# Altium footprint library MODULE_MISC.PcbLib: 36 footprints (part 1 of 3)
Each footprint in its own frame and in the unit in brackets; x right, y up, seen from the top. Pads: shape width x height; smd on the part's side, far side on the other; paste and mask are expansions set on the pad; w line width, h text height; cw(c..) or ccw(c..) is an arc to the next point about the centre after c.
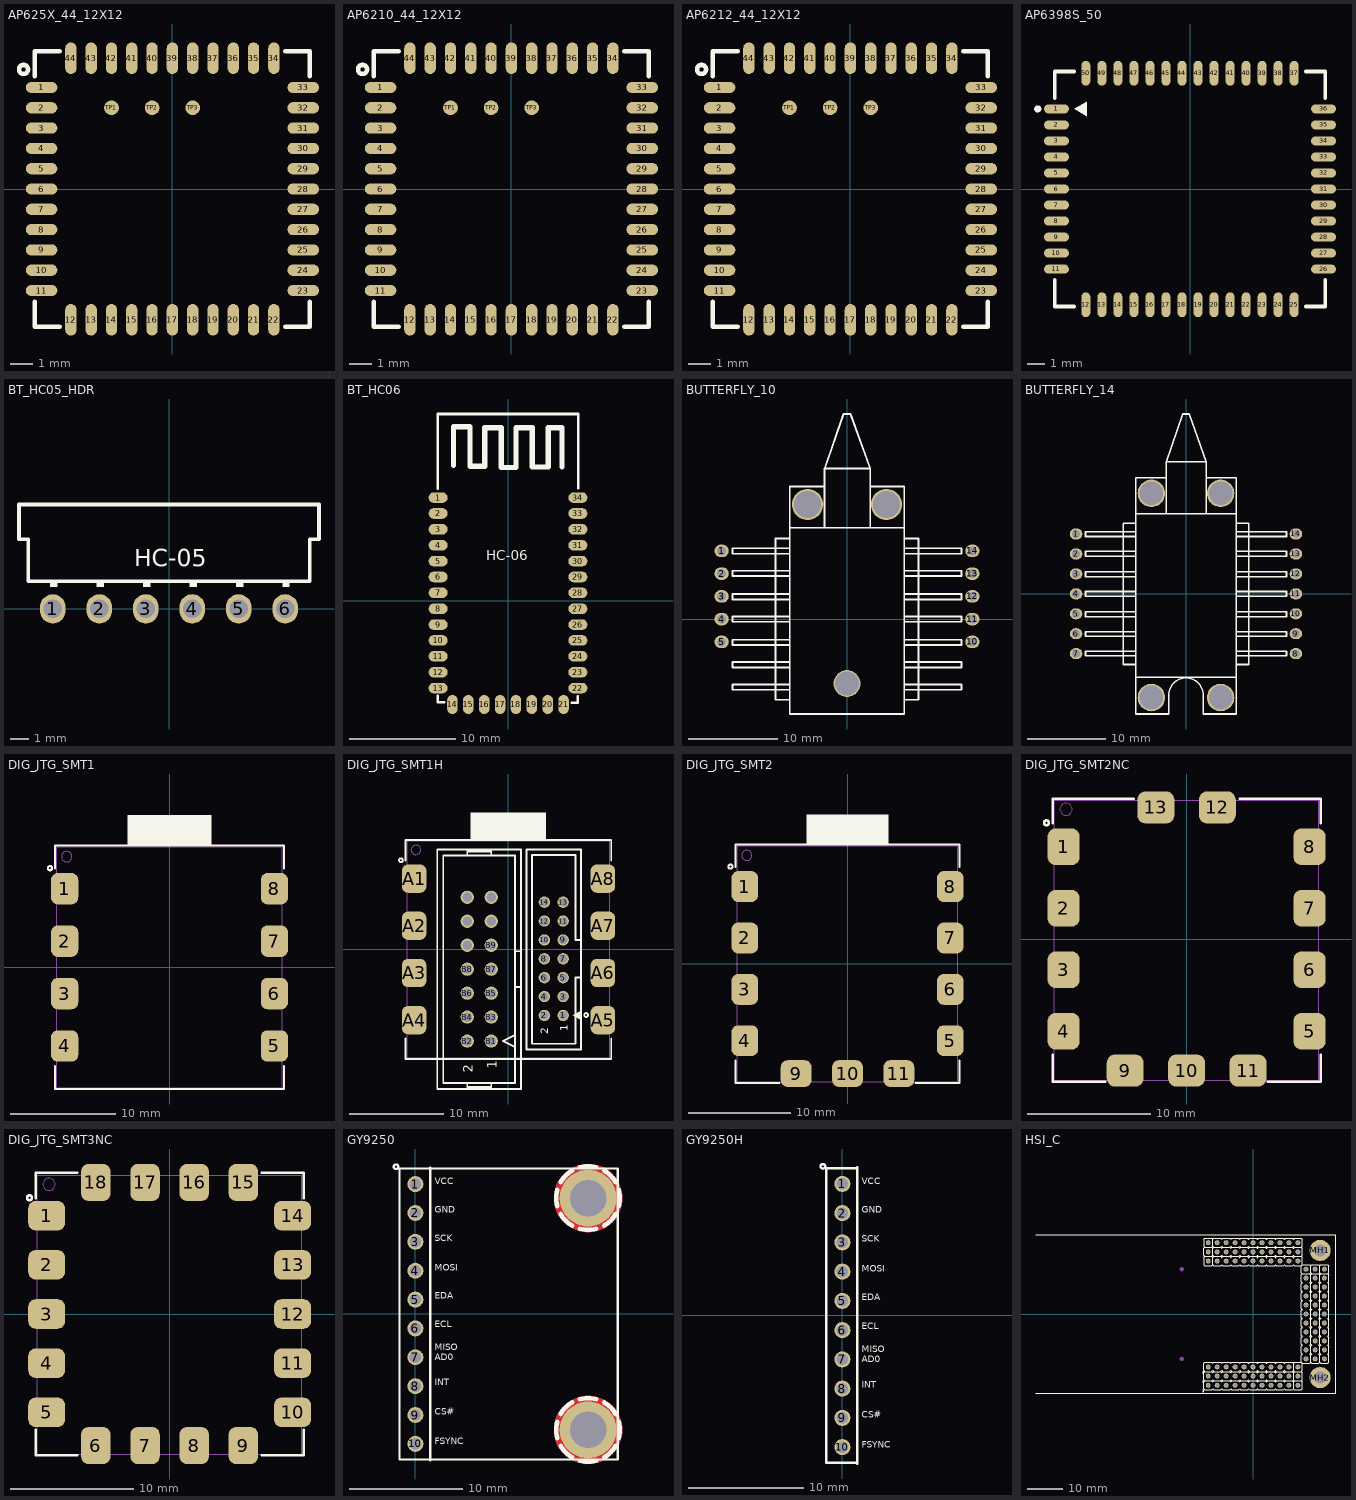
[diagram p0: the footprints below, top view; thin cyan lines are the x and y axes]

## AP625X_44_12X12 [mm] "AP6255, 0.9mm pitch, 12x12x1.5mm"
height 1.5
pads (47):
  oval 1.4x0.5 smd: 1(-5.8,4.5) 2(-5.8,3.6) 3(-5.8,2.7) 4(-5.8,1.8) 5(-5.8,0.9) 6(-5.8,0) 7(-5.8,-0.9) 8(-5.8,-1.8) 9(-5.8,-2.7) 10(-5.8,-3.6) 11(-5.8,-4.5) 23(5.8,-4.5) 24(5.8,-3.6) 25(5.8,-2.7) 26(5.8,-1.8) 27(5.8,-0.9) 28(5.8,0) 29(5.8,0.9) 30(5.8,1.8) 31(5.8,2.7) 32(5.8,3.6) 33(5.8,4.5)
  oval 0.5x1.4 smd: 12(-4.5,-5.8) 13(-3.6,-5.8) 14(-2.7,-5.8) 15(-1.8,-5.8) 16(-0.9,-5.8) 17(0,-5.8) 18(0.9,-5.8) 19(1.8,-5.8) 20(2.7,-5.8) 21(3.6,-5.8) 22(4.5,-5.8) 34(4.5,5.8) 35(3.6,5.8) 36(2.7,5.8) 37(1.8,5.8) 38(0.9,5.8) 39(0,5.8) 40(-0.9,5.8) 41(-1.8,5.8) 42(-2.7,5.8) 43(-3.6,5.8) 44(-4.5,5.8)
  round 0.65 smd: TP1(-2.7,3.6) TP2(-0.9,3.6) TP3(0.9,3.6)
Top Overlay:
  lines w0.2: -6.1,-5 -6.1,-6.1 -5,-6.1 ; -6.1,5 -6.1,6.1 -5,6.1 ; 5,-6.1 6.1,-6.1 6.1,-5 ; 5,6.1 6.1,6.1 6.1,5 ; -6.6,5.1 cw(c-6.6,5.3) -6.6,5.5 cw(c-6.6,5.3) -6.6,5.1
3D body "User Library-AP6255.step": height 1.52, standoff 0, extent -6,-6 6,6

## AP6210_44_12X12 [mm] "AP6210, 0.9mm pitch, 12x12x1.5mm"
height 1.5
pads (47):
  oval 1.4x0.5 smd: 1(-5.8,4.5) 2(-5.8,3.6) 3(-5.8,2.7) 4(-5.8,1.8) 5(-5.8,0.9) 6(-5.8,0) 7(-5.8,-0.9) 8(-5.8,-1.8) 9(-5.8,-2.7) 10(-5.8,-3.6) 11(-5.8,-4.5) 23(5.8,-4.5) 24(5.8,-3.6) 25(5.8,-2.7) 26(5.8,-1.8) 27(5.8,-0.9) 28(5.8,0) 29(5.8,0.9) 30(5.8,1.8) 31(5.8,2.7) 32(5.8,3.6) 33(5.8,4.5)
  oval 0.5x1.4 smd: 12(-4.5,-5.8) 13(-3.6,-5.8) 14(-2.7,-5.8) 15(-1.8,-5.8) 16(-0.9,-5.8) 17(0,-5.8) 18(0.9,-5.8) 19(1.8,-5.8) 20(2.7,-5.8) 21(3.6,-5.8) 22(4.5,-5.8) 34(4.5,5.8) 35(3.6,5.8) 36(2.7,5.8) 37(1.8,5.8) 38(0.9,5.8) 39(0,5.8) 40(-0.9,5.8) 41(-1.8,5.8) 42(-2.7,5.8) 43(-3.6,5.8) 44(-4.5,5.8)
  round 0.65 smd: TP1(-2.7,3.6) TP2(-0.9,3.6) TP3(0.9,3.6)
Top Overlay:
  lines w0.2: -6.1,-5 -6.1,-6.1 -5,-6.1 ; -6.1,5 -6.1,6.1 -5,6.1 ; 5,-6.1 6.1,-6.1 6.1,-5 ; 5,6.1 6.1,6.1 6.1,5 ; -6.6,5.1 ccw(c-6.6,5.3) -6.6,5.5 ccw(c-6.6,5.3) -6.6,5.1
3D body "User Library-AP6210.step": height 1.52, standoff 0, extent -6,-6 6,6

## AP6212_44_12X12 [mm] "AP6212, 0.9mm pitch, 12x12x1.5mm"
height 1.5
pads (47):
  oval 1.4x0.5 smd: 1(-5.8,4.5) 2(-5.8,3.6) 3(-5.8,2.7) 4(-5.8,1.8) 5(-5.8,0.9) 6(-5.8,0) 7(-5.8,-0.9) 8(-5.8,-1.8) 9(-5.8,-2.7) 10(-5.8,-3.6) 11(-5.8,-4.5) 23(5.8,-4.5) 24(5.8,-3.6) 25(5.8,-2.7) 26(5.8,-1.8) 27(5.8,-0.9) 28(5.8,0) 29(5.8,0.9) 30(5.8,1.8) 31(5.8,2.7) 32(5.8,3.6) 33(5.8,4.5)
  oval 0.5x1.4 smd: 12(-4.5,-5.8) 13(-3.6,-5.8) 14(-2.7,-5.8) 15(-1.8,-5.8) 16(-0.9,-5.8) 17(0,-5.8) 18(0.9,-5.8) 19(1.8,-5.8) 20(2.7,-5.8) 21(3.6,-5.8) 22(4.5,-5.8) 34(4.5,5.8) 35(3.6,5.8) 36(2.7,5.8) 37(1.8,5.8) 38(0.9,5.8) 39(0,5.8) 40(-0.9,5.8) 41(-1.8,5.8) 42(-2.7,5.8) 43(-3.6,5.8) 44(-4.5,5.8)
  round 0.65 smd: TP1(-2.7,3.6) TP2(-0.9,3.6) TP3(0.9,3.6)
Top Overlay:
  lines w0.2: -6.1,-5 -6.1,-6.1 -5,-6.1 ; -6.1,5 -6.1,6.1 -5,6.1 ; 5,-6.1 6.1,-6.1 6.1,-5 ; 5,6.1 6.1,6.1 6.1,5 ; -6.6,5.1 cw(c-6.6,5.3) -6.6,5.5 cw(c-6.6,5.3) -6.6,5.1
3D body "User Library-AP6212.step": height 1.52, standoff 0, extent -6,-6 6,6

## AP6398S_50 [mm] "AP6398S, 0.9mm pitch, 15X13X1.85mm"
height 1.85
pads (50):
  oval 1.4x0.5 smd: 1(-7.5,4.5) 2(-7.5,3.6) 3(-7.5,2.7) 4(-7.5,1.8) 5(-7.5,0.9) 6(-7.5,0) 7(-7.5,-0.9) 8(-7.5,-1.8) 9(-7.5,-2.7) 10(-7.5,-3.6) 11(-7.5,-4.5) 26(7.5,-4.5) 27(7.5,-3.6) 28(7.5,-2.7) 29(7.5,-1.8) 30(7.5,-0.9) 31(7.5,0) 32(7.5,0.9) 33(7.5,1.8) 34(7.5,2.7) 35(7.5,3.6) 36(7.5,4.5)
  oval 0.5x1.4 smd: 12(-5.85,-6.5) 13(-4.95,-6.5) 14(-4.05,-6.5) 15(-3.15,-6.5) 16(-2.25,-6.5) 17(-1.35,-6.5) 18(-0.45,-6.5) 19(0.45,-6.5) 20(1.35,-6.5) 21(2.25,-6.5) 22(3.15,-6.5) 23(4.05,-6.5) 24(4.95,-6.5) 25(5.85,-6.5) 37(5.85,6.5) 38(4.95,6.5) 39(4.05,6.5) 40(3.15,6.5) 41(2.25,6.5) 42(1.35,6.5) 43(0.45,6.5) 44(-0.45,6.5) 45(-1.35,6.5) 46(-2.25,6.5) 47(-3.15,6.5) 48(-4.05,6.5) 49(-4.95,6.5) 50(-5.85,6.5)
Top Overlay:
  circle w0.2: c-8.55,4.5 r0.1
  region: -6.5,4.5 -5.8,4.9 -5.8,4.1
  lines w0.2: -7.6,-5.1 -7.6,-6.6 -6.5,-6.6 ; -7.6,5.1 -7.6,6.6 -6.5,6.6 ; 6.5,-6.6 7.6,-6.6 7.6,-5.1 ; 6.5,6.6 7.6,6.6 7.6,5.1
3D body: height 1.85, standoff 0, extent -7.5,-6.5 7.5,6.5

## BT_HC05_HDR [mm] "Bluetooth HC-05"
pads (6):
  oval 1.4x1.6 / inner round 1.4 / far side oval 1.4x2.2 hole 1: 1(-6.35,0) 2(-3.81,0) 3(-1.27,0) 4(1.27,0) 5(3.81,0) 6(6.35,0)
Top Overlay:
  rectangle: 6.2,1.2 6.6,1.5
  rectangle: 3.66,1.2 4.06,1.5
  rectangle: 1.12,1.2 1.52,1.5
  rectangle: -1.42,1.2 -1.02,1.5
  rectangle: -3.96,1.2 -3.56,1.5
  rectangle: -6.5,1.2 -6.1,1.5
  lines w0.2: -8.2,3.8 -8.2,5.7 8.2,5.7 8.2,3.8 7.7,3.8 7.7,1.5 -7.7,1.5 -7.7,3.8 -8.2,3.8
  text "HC-05" at -1.9,2 h1.6
3D body "User Library-hc05.step": height 38, standoff -4.6, extent -8.05,-0.4 8.05,5.5

## BT_HC06 [mm] "Bluetooth HC-06"
pads (34):
  oval 1.8x1 smd: 1(-6.6,9.75) 2(-6.6,8.25) 3(-6.6,6.75) 4(-6.6,5.25) 5(-6.6,3.75) 6(-6.6,2.25) 7(-6.6,0.75) 8(-6.6,-0.75) 9(-6.6,-2.25) 10(-6.6,-3.75) 11(-6.6,-5.25) 12(-6.6,-6.75) 13(-6.6,-8.25) 22(6.6,-8.25) 23(6.6,-6.75) 24(6.6,-5.25) 25(6.6,-3.75) 26(6.6,-2.25) 27(6.6,-0.75) 28(6.6,0.75) 29(6.6,2.25) 30(6.6,3.75) 31(6.6,5.25) 32(6.6,6.75) 33(6.6,8.25) 34(6.6,9.75)
  oval 1x1.8 smd: 14(-5.25,-9.8) 15(-3.75,-9.8) 16(-2.25,-9.8) 17(-0.75,-9.8) 18(0.75,-9.8) 19(2.25,-9.8) 20(3.75,-9.8) 21(5.25,-9.8)
Top Overlay:
  lines w0.25: -6.65,-9 -6.65,-9.6 -6.05,-9.6 ; -6.65,10.6 -6.65,17.65 6.65,17.65 6.65,10.65 ; 6.05,-9.65 6.6,-9.65 6.6,-9.05
  lines w0.5: -5.15,12.8 -5.15,16.45 -3.6,16.45 -3.6,12.7 -2.2,12.7 -2.2,16.35 -0.65,16.35 -0.65,12.6 0.75,12.6 0.75,16.35 2.3,16.35 2.3,12.65 3.8,12.65 3.8,16.35 5.1,16.35 5.1,12.65
  text "HC-06" at -2.05,3.5 h1.6
3D body "BLUETOOTH-HC-06 Package.STEP": height 4.3, standoff 0, extent -6.5,-9.5 6.5,17.5

## BUTTERFLY_10 [mm] "Butterfly Laser Module 10pin"
pads (13):
  oval 1.6x1.4 / inner round 1.4 / far side oval 2.2x1.4 hole 1: 1(-14,7.62) 2(-14,5.08) 3(-14,2.54) 4(-14,0) 5(-14,-2.54) 10(14,-2.54) 11(14,0) 12(14,2.54) 13(14,5.08) 14(14,7.62)
  round 3.5 / inner round 3.5 / far side round 5 hole 3: ""(-4.4,12.8) ""(4.4,12.8)
  round 3 / inner round 3 / far side round 5 hole 2.7: ""(0,-7.2)
Top Overlay:
  lines w0.2: -6.4,-9 -8,-9 -8,9 -6.4,9 ; -6.4,-7.9 -12.8,-7.9 -12.8,-7.3 -6.4,-7.3 ; -6.4,-5.4 -12.8,-5.4 -12.8,-4.8 -6.4,-4.8 ; -6.4,-2.9 -12.8,-2.9 -12.8,-2.3 -6.4,-2.3 ; -6.4,-0.3 -12.8,-0.3 -12.8,0.3 -6.4,0.3 ; -6.4,2.2 -12.8,2.2 -12.8,2.8 -6.4,2.8 ; -6.4,4.8 -12.8,4.8 -12.8,5.4 -6.4,5.4 ; -6.4,7.3 -12.8,7.3 -12.8,7.9 -6.4,7.9 ; -6.4,10.2 6.4,10.2 ; -2.5,10.2 -2.5,16.8 ; -2.5,14.8 -6.4,14.8 -6.4,-10.6 6.4,-10.6 6.4,14.8 2.6,14.8 ; 2.6,10.2 2.6,16.8 ; 6.4,-9 8,-9 8,9 6.4,9 ; 6.4,-7.9 12.8,-7.9 12.8,-7.3 6.4,-7.3 ; 6.4,-5.4 12.8,-5.4 12.8,-4.8 6.4,-4.8 ; 6.4,-2.9 12.8,-2.9 12.8,-2.3 6.4,-2.3 ; 6.4,-0.3 12.8,-0.3 12.8,0.3 6.4,0.3 ; 6.4,2.2 12.8,2.2 12.8,2.8 6.4,2.8 ; 6.4,4.8 12.8,4.8 12.8,5.4 6.4,5.4 ; 6.4,7.3 12.8,7.3 12.8,7.9 6.4,7.9 ; -2.5,16.8 2.6,16.8 ; -2.5,16.8 -0.4,22.9 0.4,22.9 2.6,16.8
3D body "User Library-Butterfly-14-Lead.step": height 9.51, standoff 0, extent -26.65,-15.2 26.65,40.7

## BUTTERFLY_14 [mm] "Butterfly Laser Module 14pin"
pads (18):
  oval 1.6x1.4 / inner round 1.4 / far side oval 2.2x1.4 hole 1: 1(-14,7.62) 2(-14,5.08) 3(-14,2.54) 4(-14,0) 5(-14,-2.54) 6(-14,-5.08) 7(-14,-7.62) 8(14,-7.62) 9(14,-5.08) 10(14,-2.54) 11(14,0) 12(14,2.54) 13(14,5.08) 14(14,7.62)
  round 3.5 / inner round 3.5 / far side round 5 hole 3: ""(-4.4,-13.2) ""(-4.4,12.8) ""(4.4,-13.2) ""(4.4,12.8)
Top Overlay:
  lines w0.2: -6.4,-10.6 6.4,-10.6 ; -6.4,-9 -8,-9 -8,9 -6.4,9 ; -6.4,-7.9 -12.8,-7.9 -12.8,-7.3 -6.4,-7.3 ; -6.4,-5.4 -12.8,-5.4 -12.8,-4.8 -6.4,-4.8 ; -6.4,-2.9 -12.8,-2.9 -12.8,-2.3 -6.4,-2.3 ; -6.4,-0.3 -12.8,-0.3 -12.8,0.3 -6.4,0.3 ; -6.4,2.2 -12.8,2.2 -12.8,2.8 -6.4,2.8 ; -6.4,4.8 -12.8,4.8 -12.8,5.4 -6.4,5.4 ; -6.4,7.3 -12.8,7.3 -12.8,7.9 -6.4,7.9 ; -6.4,10.2 6.4,10.2 ; -2.5,10.2 -2.5,16.8 ; -2.5,14.8 -6.4,14.8 -6.4,-15.3 -2.2,-15.3 -2.2,-12.9 cw(c0,-12.9) 2.2,-12.9 2.2,-15.3 6.4,-15.3 6.4,14.8 2.6,14.8 ; 2.6,10.2 2.6,16.8 ; 6.4,-9 8,-9 8,9 6.4,9 ; 6.4,-7.9 12.8,-7.9 12.8,-7.3 6.4,-7.3 ; 6.4,-5.4 12.8,-5.4 12.8,-4.8 6.4,-4.8 ; 6.4,-2.9 12.8,-2.9 12.8,-2.3 6.4,-2.3 ; 6.4,-0.3 12.8,-0.3 12.8,0.3 6.4,0.3 ; 6.4,2.2 12.8,2.2 12.8,2.8 6.4,2.8 ; 6.4,4.8 12.8,4.8 12.8,5.4 6.4,5.4 ; 6.4,7.3 12.8,7.3 12.8,7.9 6.4,7.9 ; -2.5,16.8 -0.4,22.9 0.4,22.9 2.6,16.8 ; -2.5,16.8 2.6,16.8
3D body "User Library-Butterfly-14-Lead.step": height 9.51, standoff 0, extent -26.65,-15.2 26.65,40.7

## DIG_JTG_SMT1 [mm] "DIGILENT JTAG-SMT1"
height 3
pads (8):
  rrect50% 2.6x3 smd: 1(-10,7.5) 2(-10,2.5) 3(-10,-2.5) 4(-10,-7.5) 5(10,-7.5) 6(10,-2.5) 7(10,2.5) 8(10,7.5)
Top Overlay:
  circle w0.2: c-11.4,9.449 r0.2
  region: -4,14.5 -4,11.5 4,11.5 4,14.5
  lines w0.2: -10.9,-9.425 -10.9,-11.6 10.9,-11.6 10.9,-9.425 ; -10.9,9.425 -10.9,11.6 10.9,11.6 10.9,9.425
Mechanical 13:
  circle w0.1: c-9.8,10.55 r0.5
  lines w0.1: -10.75,-11.5 10.75,-11.5 10.75,11.5 -10.75,11.5 -10.75,-11.5
3D body "SMT2_1_0.stp": height 4.31, standoff -0.13, extent -10.75,-11.475 10.75,12.275

## DIG_JTG_SMT1H [mm] "DIGILENT JTAG-SMT1 with Header Box connectors fo IDC cables"
height 3
pads (36):
  round 1.2 / inner round 1.2 / far side oval 1.6x1.2 hole 0.9: 1(5.8,-7) 2(3.8,-7) 3(5.8,-5) 4(3.8,-5) 5(5.8,-3) 6(3.8,-3) 7(5.8,-1) 8(3.8,-1) 9(5.8,1) 10(3.8,1) 11(5.8,3) 12(3.8,3) 13(5.8,5) 14(3.8,5)
  rrect50% 2.6x3 smd: A1(-10,7.5) A2(-10,2.5) A3(-10,-2.5) A4(-10,-7.5) A5(10,-7.5) A6(10,-2.5) A7(10,2.5) A8(10,7.5)
  round 1.4 / inner round 1.4 / far side oval 2.2x1.4 hole 1 mask+0.1: B1(-1.83,-9.72) B2(-4.37,-9.72) B3(-1.83,-7.18) B4(-4.37,-7.18) B5(-1.83,-4.64) B6(-4.37,-4.64) B7(-1.83,-2.1) B8(-4.37,-2.1) B9(-1.83,0.44) B10(-4.37,0.44) B11(-1.83,2.98) B12(-4.37,2.98) B13(-1.83,5.52) B14(-4.37,5.52)
Top Overlay:
  circle w0.2: c8.23,-6.96 r0.2
  circle w0.2: c-11.4,9.449 r0.2
  region: -4,14.5 -4,11.5 4,11.5 4,14.5
  region: 7.7,-6.5 6.8,-7 7.7,-7.5
  lines w0.2: -10.9,-9.425 -10.9,-11.6 10.9,-11.6 10.9,-9.425 ; -10.9,9.425 -10.9,11.6 10.9,11.6 10.9,9.425 ; -4.37,-14.8 -4.37,-14.165 ; -4.37,-14.588 -1.83,-14.588 ; -4.37,9.965 -4.37,10.6 ; -4.37,10.388 -1.83,10.388 ; -1.83,-14.8 -1.83,-14.165 ; -1.83,9.965 -1.83,10.6 ; 0.71,-10.355 -0.56,-9.72 0.71,-9.085 ; 1.345,-4.005 0.71,-4.005 ; 1.345,-0.195 0.71,-0.195 ; 7.7,-3 7.1,-3 7.1,-10 2.5,-10 2.5,10 7.1,10 7.1,1 7.7,1 ; 0.71,-4.005 0.71,-14.165 -6.91,-14.165 -6.91,9.965 0.71,9.965 0.71,-0.195 ; 0.71,-4.005 0.71,-0.195 ; -7.545,-14.8 1.345,-14.8 1.345,10.6 -7.545,10.6 -7.545,-14.8 ; 1.9,-10.6 1.9,10.6 7.7,10.6 7.7,-10.6 1.9,-10.6
  text "1" at -1.246,-12.641 h1
  text "2" at -3.76,-13.073 h1
  text "1" at 6.3,-8.7 h0.8
  text "2" at 4.2,-9 h0.8
Mechanical 13:
  circle w0.1: c-9.8,10.55 r0.5
  lines w0.1: -10.75,-11.5 10.75,-11.5 10.75,11.5 -10.75,11.5 -10.75,-11.5
3D body "TE_1-1634688-4_IDC14_V.STEP": height 9.1, standoff -3.2, extent -7.65,-14.83 1.45,10.6
3D body "header_awhw214g-0202.stp": height 5.75, standoff -2.8, extent 2.05,-10.5 7.55,10.5

## DIG_JTG_SMT2 [mm] "DIGILENT JTAG-SMT2"
height 0.7
pads (11):
  rrect50% 2.6x3 smd: 1(-10,7.5) 2(-10,2.5) 3(-10,-2.5) 4(-10,-7.5) 5(10,-7.5) 6(10,-2.5) 7(10,2.5) 8(10,7.5)
  rrect50% 3x2.6 smd: 9(-5,-10.7) 10(0,-10.7) 11(5,-10.7)
Top Overlay:
  circle w0.2: c-11.4,9.449 r0.2
  region: -4,14.5 -4,11.5 4,11.5 4,14.5
  lines w0.2: -10.9,-9.425 -10.9,-11.6 -6.6,-11.6 ; -10.9,9.425 -10.9,11.6 10.9,11.6 10.9,9.425 ; 6.6,-11.6 10.9,-11.6 10.9,-9.425
Mechanical 13:
  circle w0.1: c-9.8,10.55 r0.5
  lines w0.1: -10.75,-11.5 10.75,-11.5 10.75,11.5 -10.75,11.5 -10.75,-11.5
3D body "SMT2_1_0.stp": height 4.31, standoff -0.13, extent -10.75,-11.475 10.75,12.275

## DIG_JTG_SMT2NC [mm] "DIGILENT JTAG-SMT2-NC"
height 0.7
pads (13):
  rrect50% 2.6x3 smd: 1(-10,7.5) 2(-10,2.5) 3(-10,-2.5) 4(-10,-7.5) 5(10,-7.5) 6(10,-2.5) 7(10,2.5) 8(10,7.5)
  rrect50% 3x2.6 smd: 9(-5,-10.7) 10(0,-10.7) 11(5,-10.7) 12(2.5,10.7) 13(-2.5,10.7)
Top Overlay:
  circle w0.2: c-11.4,9.449 r0.2
  lines w0.2: -10.9,-9.425 -10.9,-11.6 -6.6,-11.6 ; -10.9,9.425 -10.9,11.4 -4.3,11.4 ; 4.3,11.4 10.9,11.4 10.9,9.425 ; 6.6,-11.6 10.9,-11.6 10.9,-9.425
Mechanical 13:
  circle w0.1: c-9.8,10.55 r0.5
  lines w0.1: -10.75,-11.5 -10.75,11.3 10.75,11.3 10.75,-11.5 -10.75,-11.5
3D body "SMT2-NC_1_0.stp": height 2.7, standoff 0, extent -10.75,-11.475 10.75,11.275

## DIG_JTG_SMT3NC [mm] "DIGILENT JTAG-SMT3-NC"
height 0.7
pads (18):
  rrect50% 3x2.4 smd: 1(-10,8) 2(-10,4) 3(-10,0) 4(-10,-4) 5(-10,-8) 10(10,-8) 11(10,-4) 12(10,0) 13(10,4) 14(10,8)
  rrect50% 2.4x3 smd: 6(-6,-10.7) 7(-2,-10.7) 8(2,-10.7) 9(6,-10.7) 15(6,10.7) 16(2,10.7) 17(-2,10.7) 18(-6,10.7)
Top Overlay:
  circle w0.2: c-11.4,9.449 r0.2
  lines w0.2: -10.9,-9.425 -10.9,-11.5 -7.5,-11.5 ; -10.9,9.425 -10.9,11.5 -7.5,11.5 ; 7.5,-11.5 10.9,-11.5 10.9,-9.425 ; 7.5,11.5 10.9,11.5 10.9,9.425
Mechanical 13:
  circle w0.1: c-9.8,10.55 r0.5
  lines w0.1: -10.75,-11.4 -10.75,11.3 10.75,11.3 10.75,-11.4 -10.75,-11.4
3D body "SMT3.step": height 2.7, standoff 0.09, extent -10.8,-11.375 10.7,11.375

## GY9250 [mm] "GY-9250, MPU-9250 Module"
pads (12):
  round 1.4 / inner round 1.4 / far side oval 2.2x1.4 hole 1 mask+0.1: 1(0,11.43) 2(0,8.89) 3(0,6.35) 4(0,3.81) 5(0,1.27) 6(0,-1.27) 7(0,-3.81) 8(0,-6.35) 9(0,-8.89) 10(0,-11.43)
  round 5 / inner round 3.5 / far side round 5 hole 3.2 mask+0.1: ""(15.2,-10.2) ""(15.2,10.2)
Top Layer:
  pour cut-out: 15.2,13.2 15.003,13.2 14.613,13.149 14.234,13.047 13.87,12.896 13.53,12.7 13.218,12.46 12.94,12.182 12.7,11.87 12.504,11.53 12.353,11.166 12.251,10.787 12.2,10.397 12.2,10.2 12.2,10.003 12.251,9.613 12.353,9.234 12.504,8.87 12.7,8.53 12.94,8.218 13.218,7.94 13.53,7.7 13.87,7.504 14.234,7.353 14.613,7.251 15.003,7.2 15.2,7.2 15.397,7.2 15.787,7.251 16.166,7.353 16.53,7.504 16.87,7.7 17.182,7.94 17.46,8.218 17.7,8.53 17.896,8.87 18.047,9.234 18.149,9.613 18.2,10.003 18.2,10.2 18.2,10.397 18.149,10.787 18.047,11.166 17.896,11.53 17.7,11.87 17.46,12.182 17.182,12.46 16.87,12.7 16.53,12.896 16.166,13.047 15.787,13.149 15.397,13.2
  pour cut-out: 12.2,-10.2 12.2,-10.397 12.251,-10.787 12.353,-11.166 12.504,-11.53 12.7,-11.87 12.94,-12.182 13.218,-12.46 13.53,-12.7 13.87,-12.896 14.234,-13.047 14.613,-13.149 15.003,-13.2 15.2,-13.2 15.397,-13.2 15.787,-13.149 16.166,-13.047 16.53,-12.896 16.87,-12.7 17.182,-12.46 17.46,-12.182 17.7,-11.87 17.896,-11.53 18.047,-11.166 18.149,-10.787 18.2,-10.397 18.2,-10.2 18.2,-10.003 18.149,-9.613 18.047,-9.234 17.896,-8.87 17.7,-8.53 17.46,-8.218 17.182,-7.94 16.87,-7.7 16.53,-7.504 16.166,-7.353 15.787,-7.251 15.397,-7.2 15.2,-7.2 15.003,-7.2 14.613,-7.251 14.234,-7.353 13.87,-7.504 13.53,-7.7 13.218,-7.94 12.94,-8.218 12.7,-8.53 12.504,-8.87 12.353,-9.234 12.251,-9.613 12.2,-10.003
Bottom Layer:
  pour cut-out: 15.2,13.2 15.003,13.2 14.613,13.149 14.234,13.047 13.87,12.896 13.53,12.7 13.218,12.46 12.94,12.182 12.7,11.87 12.504,11.53 12.353,11.166 12.251,10.787 12.2,10.397 12.2,10.2 12.2,10.003 12.251,9.613 12.353,9.234 12.504,8.87 12.7,8.53 12.94,8.218 13.218,7.94 13.53,7.7 13.87,7.504 14.234,7.353 14.613,7.251 15.003,7.2 15.2,7.2 15.397,7.2 15.787,7.251 16.166,7.353 16.53,7.504 16.87,7.7 17.182,7.94 17.46,8.218 17.7,8.53 17.896,8.87 18.047,9.234 18.149,9.613 18.2,10.003 18.2,10.2 18.2,10.397 18.149,10.787 18.047,11.166 17.896,11.53 17.7,11.87 17.46,12.182 17.182,12.46 16.87,12.7 16.53,12.896 16.166,13.047 15.787,13.149 15.397,13.2
  pour cut-out: 12.2,-10.2 12.2,-10.397 12.251,-10.787 12.353,-11.166 12.504,-11.53 12.7,-11.87 12.94,-12.182 13.218,-12.46 13.53,-12.7 13.87,-12.896 14.234,-13.047 14.613,-13.149 15.003,-13.2 15.2,-13.2 15.397,-13.2 15.787,-13.149 16.166,-13.047 16.53,-12.896 16.87,-12.7 17.182,-12.46 17.46,-12.182 17.7,-11.87 17.896,-11.53 18.047,-11.166 18.149,-10.787 18.2,-10.397 18.2,-10.2 18.2,-10.003 18.149,-9.613 18.047,-9.234 17.896,-8.87 17.7,-8.53 17.46,-8.218 17.182,-7.94 16.87,-7.7 16.53,-7.504 16.166,-7.353 15.787,-7.251 15.397,-7.2 15.2,-7.2 15.003,-7.2 14.613,-7.251 14.234,-7.353 13.87,-7.504 13.53,-7.7 13.218,-7.94 12.94,-8.218 12.7,-8.53 12.504,-8.87 12.353,-9.234 12.251,-9.613 12.2,-10.003
Top Overlay:
  circle w0.2: c-1.7,12.96 r0.2
  lines w0.2: 1.3,-12.9 1.3,12.9 ; -1.4,-12.8 -1.4,12.8 17.8,12.8 17.8,-12.8 -1.4,-12.8
  lines w0.4: 12.495,-10.925 cw(c15.2,-10.2) 12.495,-9.475 ; 12.495,9.475 cw(c15.2,10.2) 12.495,10.925 ; 12.775,-11.6 ccw(c15.2,-10.2) 13.8,-12.625 ; 12.775,-8.8 cw(c15.2,-10.2) 13.8,-7.775 ; 12.775,8.8 ccw(c15.2,10.2) 13.8,7.775 ; 12.775,11.6 cw(c15.2,10.2) 13.8,12.625 ; 14.475,-12.905 ccw(c15.2,-10.2) 15.925,-12.905 ; 14.475,-7.495 cw(c15.2,-10.2) 15.925,-7.495 ; 14.475,7.495 ccw(c15.2,10.2) 15.925,7.495 ; 14.475,12.905 cw(c15.2,10.2) 15.925,12.905 ; 16.6,-12.625 ccw(c15.2,-10.2) 17.625,-11.6 ; 16.6,-7.775 cw(c15.2,-10.2) 17.625,-8.8 ; 16.6,7.775 ccw(c15.2,10.2) 17.625,8.8 ; 16.6,12.625 cw(c15.2,10.2) 17.625,11.6 ; 17.905,-10.925 ccw(c15.2,-10.2) 17.905,-9.475 ; 17.905,9.475 ccw(c15.2,10.2) 17.905,10.925
  text "MISO" at 1.7,-3.4 h1
  text "VCC" at 1.7,11.2 h1
  text "GND" at 1.7,8.7 h1
  text "SCK" at 1.7,6.2 h1
  text "MOSI" at 1.7,3.6 h1
  text "EDA" at 1.7,1.1 h1
  text "ECL" at 1.7,-1.4 h1
  text "AD0" at 1.7,-4.3 h1
  text "INT" at 1.7,-6.5 h1
  text "CS#" at 1.7,-9.1 h1
  text "FSYNC" at 1.7,-11.7 h1
3D body "MPU-9250.step": height 14.2, standoff 2.27, extent -1.3,-12.7 17.7,12.7
3D body "female_header_a-bl254-eg-g03d.stp": height 8.5, standoff -3.2, extent -1.3,-2.665 1.2,5.205
3D body "female_header_a-bl254-eg-g03d.stp": height 8.5, standoff -3.2, extent -1.3,4.955 1.2,12.825
3D body "female_header_a-bl254-eg-g02d.stp": height 8.5, standoff -3.2, extent -1.3,-7.745 1.2,-2.415
3D body "female_header_a-bl254-eg-g02d.stp": height 8.5, standoff -3.2, extent -1.3,-12.825 1.2,-7.495

## GY9250H [mm] "GY-9250, MPU-9250 Module"
pads (10):
  round 1.4 / inner round 1.4 / far side oval 2.2x1.4 hole 1 mask+0.1: 1(0,11.43) 2(0,8.89) 3(0,6.35) 4(0,3.81) 5(0,1.27) 6(0,-1.27) 7(0,-3.81) 8(0,-6.35) 9(0,-8.89) 10(0,-11.43)
Top Overlay:
  circle w0.2: c-1.7,12.96 r0.2
  lines w0.2: 1.3,-12.9 1.3,12.9 ; 1.3,-12.8 -1.4,-12.8 -1.4,12.8 1.3,12.8
  text "FSYNC" at 1.7,-11.7 h1
  text "CS#" at 1.7,-9.1 h1
  text "INT" at 1.7,-6.5 h1
  text "AD0" at 1.7,-4.3 h1
  text "ECL" at 1.7,-1.4 h1
  text "EDA" at 1.7,1.1 h1
  text "MOSI" at 1.7,3.6 h1
  text "SCK" at 1.7,6.2 h1
  text "GND" at 1.7,8.7 h1
  text "VCC" at 1.7,11.2 h1
  text "MISO" at 1.7,-3.4 h1
3D body "female_header_a-bl254-eg-g02d.stp": height 8.5, standoff -3.2, extent -1.3,-12.825 1.2,-7.495
3D body "female_header_a-bl254-eg-g02d.stp": height 8.5, standoff -3.2, extent -1.3,-7.745 1.2,-2.415
3D body "female_header_a-bl254-eg-g03d.stp": height 8.5, standoff -3.2, extent -1.3,4.955 1.2,12.825
3D body "female_header_a-bl254-eg-g03d.stp": height 8.5, standoff -3.2, extent -1.3,-2.665 1.2,5.205
3D body "MPU-9250.step": height 14.2, standoff 2.27, extent -1.3,-12.7 17.7,12.7

## HSI_C [mm] "CHILA_High.Speed.Interface_CARRIER, FEMALE"
pads (103):
  oct 1.4x1.4 / inner round 1.4 / far side oct 1.4x2 hole 1 mask+0.1: BA1(-12.7,-15)
  round 1.4 / inner round 1.4 / far side oval 1.4x2 hole 1 mask+0.1: BA2(-10.16,-15) BA3(-7.62,-15) BA4(-5.08,-15) BA5(-2.54,-15) BA6(0,-15) BA7(2.54,-15) BA8(5.08,-15) BA9(7.62,-15) BA10(10.16,-15) BA11(12.7,-15) BB1(-12.7,-17.6) BB2(-10.16,-17.6) BB3(-7.62,-17.6) BB4(-5.08,-17.6) BB5(-2.54,-17.6) BB6(0,-17.6) BB7(2.54,-17.6) BB8(5.08,-17.6) BB9(7.62,-17.6) BB10(10.16,-17.6) BB11(12.7,-17.6) BC1(-12.7,-20.2) BC2(-10.16,-20.2) BC3(-7.62,-20.2) BC4(-5.08,-20.2) BC5(-2.54,-20.2) BC6(0,-20.2) BC7(2.54,-20.2) BC8(5.08,-20.2) BC9(7.62,-20.2) BC10(10.16,-20.2) BC11(12.7,-20.2) TA1(12.7,15) TA2(10.16,15) TA3(7.62,15) TA4(5.08,15) TA5(2.54,15) TA6(0,15) TA7(-2.54,15) TA8(-5.08,15) TA9(-7.62,15) TA10(-10.16,15) TA11(-12.7,15) TB1(12.7,17.6) TB2(10.16,17.6) TB3(7.62,17.6) TB4(5.08,17.6) TB5(2.54,17.6) TB6(0,17.6) TB7(-2.54,17.6) TB8(-5.08,17.6) TB9(-7.62,17.6) TB10(-10.16,17.6) TB11(-12.7,17.6) TC1(12.7,20.2) TC2(10.16,20.2) TC3(7.62,20.2) TC4(5.08,20.2) TC5(2.54,20.2) TC6(0,20.2) TC7(-2.54,20.2) TC8(-5.08,20.2) TC9(-7.62,20.2) TC10(-10.16,20.2) TC11(-12.7,20.2)
  round 1.4 / inner round 1.4 / far side oval 2x1.4 hole 1 mask+0.1: CA1(15,-12.7) CA2(15,-10.16) CA3(15,-7.62) CA4(15,-5.08) CA5(15,-2.54) CA6(15,0) CA7(15,2.54) CA8(15,5.08) CA9(15,7.62) CA10(15,10.16) CA11(15,12.7) CB1(17.6,-12.7) CB2(17.6,-10.16) CB3(17.6,-7.62) CB4(17.6,-5.08) CB5(17.6,-2.54) CB6(17.6,0) CB7(17.6,2.54) CB8(17.6,5.08) CB9(17.6,7.62) CB10(17.6,10.16) CB11(17.6,12.7) CC1(20.2,-12.7) CC2(20.2,-10.16) CC3(20.2,-7.62) CC4(20.2,-5.08) CC5(20.2,-2.54) CC6(20.2,0) CC7(20.2,2.54) CC8(20.2,5.08) CC9(20.2,7.62) CC10(20.2,10.16) CC11(20.2,12.7)
  round 6 hole 3.5 mask+0.1: MH1(19,18) MH2(19,-18)
  round 1.2 on Mech1 mask+0.1: ""(-20.2,-12.7) ""(-20.2,12.7)
Top Overlay:
  drawing of 625 lines, arcs and shapes, not listed
3D body "female_header_a-bl254-eg-g03d.stp": height 8.5, standoff -3.2, extent -1.395,19 6.475,21.5
3D body "female_header_a-bl254-eg-g03d.stp": height 8.5, standoff -3.2, extent 6.225,19 14.095,21.5
3D body "female_header_a-bl254-eg-g02d.stp": height 8.5, standoff -3.2, extent -14.095,19 -8.765,21.5
3D body "female_header_a-bl254-eg-g03d.stp": height 8.5, standoff -3.2, extent -9.015,19 -1.145,21.5
3D body "female_header_a-bl254-eg-g03d.stp": height 8.5, standoff -3.2, extent -9.015,16.4 -1.145,18.9
3D body "female_header_a-bl254-eg-g02d.stp": height 8.5, standoff -3.2, extent -14.095,16.4 -8.765,18.9
3D body "female_header_a-bl254-eg-g03d.stp": height 8.5, standoff -3.2, extent 6.225,16.4 14.095,18.9
3D body "female_header_a-bl254-eg-g03d.stp": height 8.5, standoff -3.2, extent -1.395,16.4 6.475,18.9
3D body "female_header_a-bl254-eg-g03d.stp": height 8.5, standoff -3.2, extent -9.015,13.8 -1.145,16.3
3D body "female_header_a-bl254-eg-g02d.stp": height 8.5, standoff -3.2, extent -14.095,13.8 -8.765,16.3
3D body "female_header_a-bl254-eg-g03d.stp": height 8.5, standoff -3.2, extent 6.225,13.8 14.095,16.3
3D body "female_header_a-bl254-eg-g03d.stp": height 8.5, standoff -3.2, extent -1.395,13.8 6.475,16.3
3D body "female_header_a-bl254-eg-g03d.stp": height 8.5, standoff -3.2, extent 19,-6.475 21.5,1.395
3D body "female_header_a-bl254-eg-g03d.stp": height 8.5, standoff -3.2, extent 19,-14.095 21.5,-6.225
3D body "female_header_a-bl254-eg-g02d.stp": height 8.5, standoff -3.2, extent 19,8.765 21.5,14.095
3D body "female_header_a-bl254-eg-g03d.stp": height 8.5, standoff -3.2, extent 19,1.145 21.5,9.015
3D body "female_header_a-bl254-eg-g03d.stp": height 8.5, standoff -3.2, extent 16.4,1.145 18.9,9.015
3D body "female_header_a-bl254-eg-g02d.stp": height 8.5, standoff -3.2, extent 16.4,8.765 18.9,14.095
3D body "female_header_a-bl254-eg-g03d.stp": height 8.5, standoff -3.2, extent 16.4,-14.095 18.9,-6.225
3D body "female_header_a-bl254-eg-g03d.stp": height 8.5, standoff -3.2, extent 16.4,-6.475 18.9,1.395
3D body "female_header_a-bl254-eg-g03d.stp": height 8.5, standoff -3.2, extent 13.8,1.145 16.3,9.015
3D body "female_header_a-bl254-eg-g02d.stp": height 8.5, standoff -3.2, extent 13.8,8.765 16.3,14.095
3D body "female_header_a-bl254-eg-g03d.stp": height 8.5, standoff -3.2, extent 13.8,-14.095 16.3,-6.225
3D body "female_header_a-bl254-eg-g03d.stp": height 8.5, standoff -3.2, extent 13.8,-6.475 16.3,1.395
3D body "female_header_a-bl254-eg-g03d.stp": height 8.5, standoff -3.2, extent -6.475,-16.3 1.395,-13.8
3D body "female_header_a-bl254-eg-g03d.stp": height 8.5, standoff -3.2, extent -14.095,-16.3 -6.225,-13.8
3D body "female_header_a-bl254-eg-g02d.stp": height 8.5, standoff -3.2, extent 8.765,-16.3 14.095,-13.8
3D body "female_header_a-bl254-eg-g03d.stp": height 8.5, standoff -3.2, extent 1.145,-16.3 9.015,-13.8
3D body "female_header_a-bl254-eg-g03d.stp": height 8.5, standoff -3.2, extent -6.475,-18.9 1.395,-16.4
3D body "female_header_a-bl254-eg-g03d.stp": height 8.5, standoff -3.2, extent -14.095,-18.9 -6.225,-16.4
3D body "female_header_a-bl254-eg-g02d.stp": height 8.5, standoff -3.2, extent 8.765,-18.9 14.095,-16.4
3D body "female_header_a-bl254-eg-g03d.stp": height 8.5, standoff -3.2, extent 1.145,-18.9 9.015,-16.4
3D body "female_header_a-bl254-eg-g03d.stp": height 8.5, standoff -3.2, extent 1.145,-21.5 9.015,-19
3D body "female_header_a-bl254-eg-g02d.stp": height 8.5, standoff -3.2, extent 8.765,-21.5 14.095,-19
3D body "female_header_a-bl254-eg-g03d.stp": height 8.5, standoff -3.2, extent -14.095,-21.5 -6.225,-19
3D body "female_header_a-bl254-eg-g03d.stp": height 8.5, standoff -3.2, extent -6.475,-21.5 1.395,-19